# EAGLE library part 854-22-010-30-001101 (library KVB-connectors)
10 Position Spring Piston Connector Surface Mount
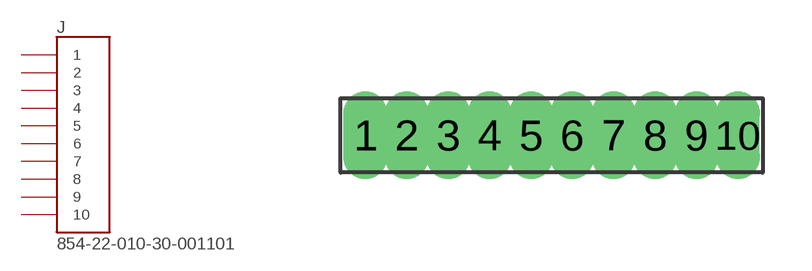
[diagram p25: symbol with the pads of 854-22-010-30-001101; footprint 854-22-010-30-001101]

Designator prefix J

## 854-22-010-30-001101 (MAN-PART_NUM: 854-22-010-30-001101; MANUFACTURER: Mill-Max)  [854-22-010-30-001101]
1  1
2  2
3  3
4  4
5  5
6  6
7  7
8  8
9  9
10  10

## Footprint 854-22-010-30-001101 (pad centres in mm)
drill 0.838 pad 1.067 long: 1 -5.715,0; 2 -4.445,0; 3 -3.175,0; 4 -1.905,0; 5 -0.635,0; 6 0.635,0; 7 1.905,0; 8 3.175,0; 9 4.445,0; 10 5.715,0